# Altium schematic symbol library XC6206P302MR.SchLib: 1 symbol
Pins are listed as number, name and electrical type; pins without a type are passive.

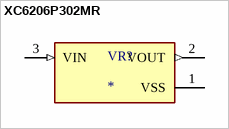
[diagram p0: symbol XC6206P302MR]

## XC6206P302MR
designator VR?
Linear Voltage Regulator IC 1 Output 200mA SOT-23; MF: {'manufacturer': u'Torex'}; MP: XC6206P302MR; Package: None; Price: None; Value: *; Availability: Unavailable
footprint SOT95P280X130-3N
pins: 1 VSS (power), 2 VOUT (out), 3 VIN (in)